# Altium footprint library QFN50P800X700X80-53T541N.PcbLib: 1 footprints
Each footprint in its own frame and in the unit in brackets; x right, y up, seen from the top. Pads: shape width x height; smd on the part's side, far side on the other; paste and mask are expansions set on the pad; w line width, h text height; cw(c..) or ccw(c..) is an arc to the next point about the centre after c.
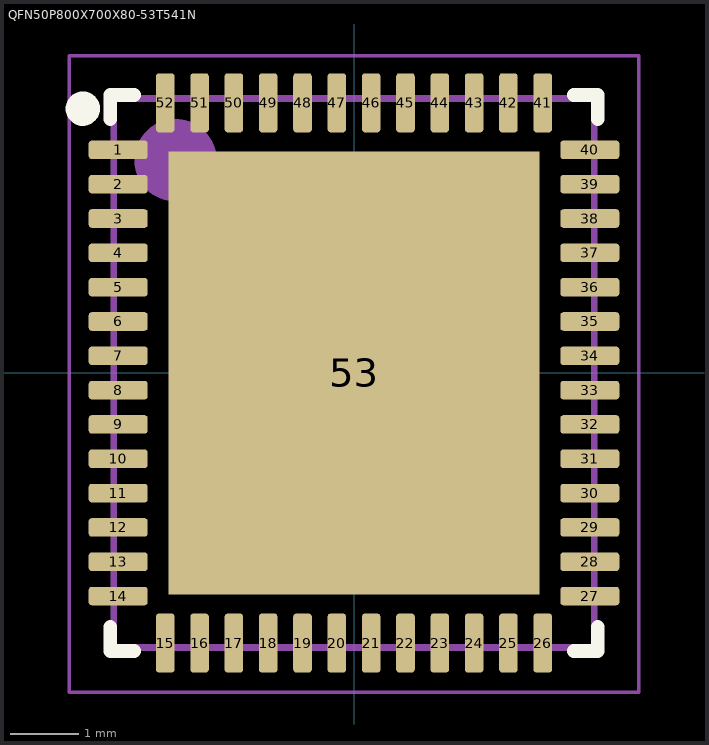
[diagram p0: the footprint, top view; thin cyan lines are the x and y axes]

## QFN50P800X700X80-53T541N [mm] "Quad Flat No-Lead (QFN with Tab), 0.50 mm pitch; rect., 14 pin X 12 pin, 8.00 mm L X 7.00 mm W X 0.80 mm H body"
height 0.8
pads (53):
  rrect33% 0.86x0.27 smd: 1(-3.435,3.25) 2(-3.435,2.75) 3(-3.435,2.25) 4(-3.435,1.75) 5(-3.435,1.25) 6(-3.435,0.75) 7(-3.435,0.25) 8(-3.435,-0.25) 9(-3.435,-0.75) 10(-3.435,-1.25) 11(-3.435,-1.75) 12(-3.435,-2.25) 13(-3.435,-2.75) 14(-3.435,-3.25) 27(3.435,-3.25) 28(3.435,-2.75) 29(3.435,-2.25) 30(3.435,-1.75) 31(3.435,-1.25) 32(3.435,-0.75) 33(3.435,-0.25) 34(3.435,0.25) 35(3.435,0.75) 36(3.435,1.25) 37(3.435,1.75) 38(3.435,2.25) 39(3.435,2.75) 40(3.435,3.25)
  rrect33% 0.27x0.86 smd: 15(-2.75,-3.935) 16(-2.25,-3.935) 17(-1.75,-3.935) 18(-1.25,-3.935) 19(-0.75,-3.935) 20(-0.25,-3.935) 21(0.25,-3.935) 22(0.75,-3.935) 23(1.25,-3.935) 24(1.75,-3.935) 25(2.25,-3.935) 26(2.75,-3.935) 41(2.75,3.935) 42(2.25,3.935) 43(1.75,3.935) 44(1.25,3.935) 45(0.75,3.935) 46(0.25,3.935) 47(-0.25,3.935) 48(-0.75,3.935) 49(-1.25,3.935) 50(-1.75,3.935) 51(-2.25,3.935) 52(-2.75,3.935)
  rect 5.41x6.45 smd paste-6.45 mask+0: 53(0,0)
Top Overlay:
  circle w0.25: c-3.95,3.85 r0.125
  lines w0.2: -3.55,-3.7 -3.55,-4.05 -3.2,-4.05 ; -3.55,3.7 -3.55,4.05 -3.2,4.05 ; 3.2,-4.05 3.55,-4.05 3.55,-3.7 ; 3.2,4.05 3.55,4.05 3.55,3.7
Top Paste:
  region: -2.27,-2.94 -2.27,-1.36 -0.43,-1.36 -0.43,-2.94
  region: 0.43,-2.94 0.43,-1.36 2.27,-1.36 2.27,-2.94
  region: -2.27,-0.79 -2.27,0.79 -0.43,0.79 -0.43,-0.79
  region: 0.43,-0.79 0.43,0.79 2.27,0.79 2.27,-0.79
  region: -2.27,1.36 -2.27,2.94 -0.43,2.94 -0.43,1.36
  region: 0.43,1.36 0.43,2.94 2.27,2.94 2.27,1.36
Top Assembly:
  circle w0.6: c-2.6,3.1 r0.3
  lines w0.1: -3.5,-4 -3.5,4 3.5,4 3.5,-4 -3.5,-4
Top Courtyard:
  lines w0.05: -4.15,-4.65 -4.15,4.62 4.15,4.62 4.15,-4.65 -4.15,-4.65
Top Designator:
  text ".Designator" at -0.5,-0.5 h1
Top Component Center:
  lines w0.05: -0.5,0 0.5,0 ; 0,-0.5 0,0.5
3D body "QFN50P800X700X80-53T541X645.STEP": height 0.8, standoff 0, extent -3.55,-4.05 3.55,4.05